# Altium footprint library RelayBord.PcbLib: 28 footprints (part 2 of 2)
Each footprint in its own frame and in the unit in brackets; x right, y up, seen from the top. Pads: shape width x height; smd on the part's side, far side on the other; paste and mask are expansions set on the pad; w line width, h text height; cw(c..) or ccw(c..) is an arc to the next point about the centre after c.
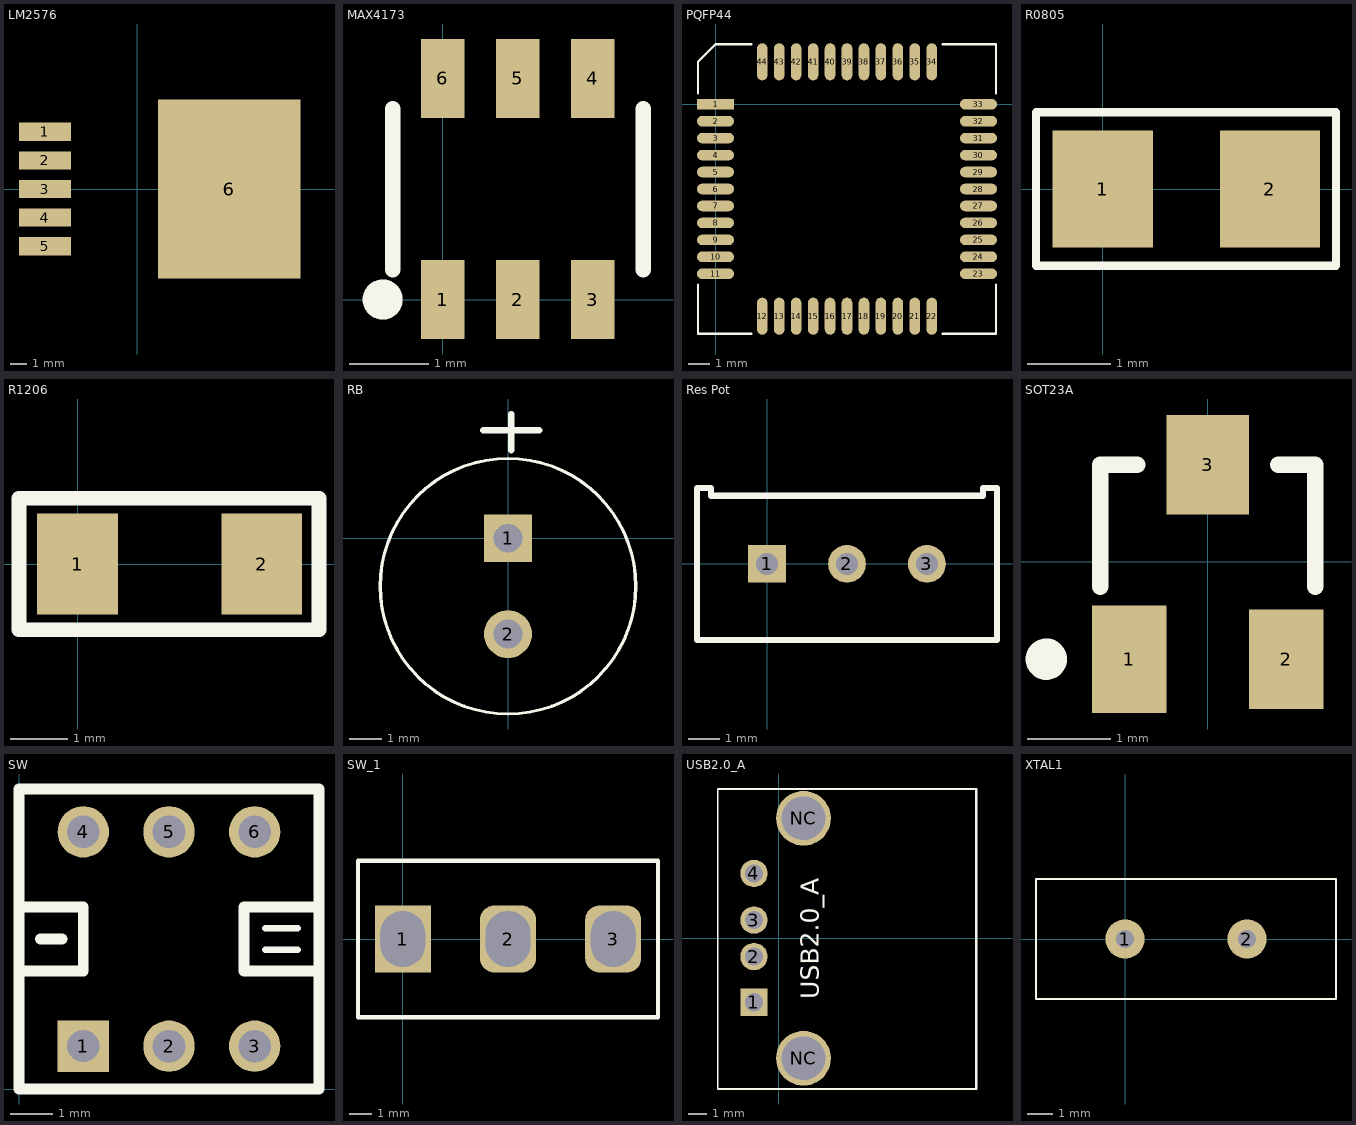
[diagram p1: the footprints below, top view; thin cyan lines are the x and y axes]

## LM2576 [mm]
pads (6):
  rect 3.1x1.1 smd: 1(-5.5,3.404) 2(-5.5,1.702) 3(-5.5,0) 4(-5.5,-1.702) 5(-5.5,-3.404)
  rect 8.5x10.7 smd: 6(5.5,0)

## MAX4173 [mm] "0.5*1,间距0.95"
pads (6):
  rect 0.55x1 smd: 1(0,0) 2(0.95,0) 3(1.9,0) 4(1.9,2.8) 5(0.95,2.8) 6(0,2.8)
Top Overlay:
  circle w0.254: c-0.762,0 r0.127
  lines w0.2: -0.635,0.381 -0.635,2.413 ; 2.54,0.381 2.54,2.413

## PQFP44 [mm]
pads (44):
  rect 1.75x0.5 smd: 1(0,0)
  oval 1.75x0.5 smd: 2(0,-0.8) 3(0,-1.6) 4(0,-2.4) 5(0,-3.2) 6(0,-4) 7(0,-4.8) 8(0,-5.6) 9(0,-6.4) 10(0,-7.2) 11(0,-8) 23(12.4,-8) 24(12.4,-7.2) 25(12.4,-6.4) 26(12.4,-5.6) 27(12.4,-4.8) 28(12.4,-4) 29(12.4,-3.2) 30(12.4,-2.4) 31(12.4,-1.6) 32(12.4,-0.8) 33(12.4,0)
  oval 0.5x1.75 smd: 12(2.2,-10) 13(3,-10) 14(3.8,-10) 15(4.6,-10) 16(5.4,-10) 17(6.2,-10) 18(7,-10) 19(7.8,-10) 20(8.6,-10) 21(9.4,-10) 22(10.2,-10) 34(10.2,2) 35(9.4,2) 36(8.6,2) 37(7.8,2) 38(7,2) 39(6.2,2) 40(5.4,2) 41(4.6,2) 42(3.8,2) 43(3,2) 44(2.2,2)
Top Overlay:
  lines w0.1: -0.825,-8.5 -0.825,-10.825 1.7,-10.825 ; -0.825,0.5 -0.825,2 0,2.825 1.7,2.825 ; 10.7,-10.825 13.225,-10.825 13.225,-8.5 ; 10.7,2.825 13.225,2.825 13.225,0.5

## R0805 [mm]
pads (2):
  rect 1.2x1.4 smd: 1(0,0) 2(2,0)
Top Overlay:
  lines w0.1: -0.8,-0.92 -0.8,0.92 2.79,0.92 2.79,-0.92 -0.8,-0.92

## R1206 [mm]
pads (2):
  rect 1.4x1.75 smd: 1(0,0) 2(3.2,0)
Top Overlay:
  lines w0.254: -1.016,-1.143 -1.016,1.143 4.191,1.143 4.191,-1.143 -1.016,-1.143

## RB [mm] "6mm*8mm"
height 12
pads (2):
  rect 1.5x1.5 hole 0.9: 1(0,0)
  round 1.5 hole 0.9: 2(0,-3)
Top Overlay:
  circle w0.1: c0,-1.501 r4
  lines w0.2: -0.77,3.38 0.98,3.38 ; 0.1,2.75 0.1,3.89

## Res Pot [mm] "Hole size:0.7mm      space:2.54mm"
pads (3):
  rect 1.2x1.2 hole 0.7: 1(0,0)
  round 1.2 hole 0.7: 2(2.54,0) 3(5.08,0)
Top Overlay:
  lines w0.2: -1.781,2.41 -2.225,2.41 -2.225,-2.42 7.305,-2.42 7.305,2.41 6.861,2.41 ; -1.778,2.407 -1.778,2.159 6.858,2.159 6.858,2.407

## SOT23A [mm] "SOT-23; 3 Leads; Body 3.0 x 2.5 mm, inc. leads (LxW max)"
height 1.2
pads (3):
  rect 0.9x1.3 smd: 1(-0.95,-1.175)
  rect 0.9x1.2 smd: 2(0.95,-1.175)
  rect 1x1.2 smd: 3(0,1.175)
Top Overlay:
  circle w0.25: c-1.95,-1.175 r0.125
  lines w0.2: -1.3,-0.3 -1.3,1.175 -0.85,1.175 ; 0.85,1.175 1.3,1.175 1.3,-0.3

## SW [mm] "Hole size 0.75,  间距x:2mm ,y:5mm"
pads (6):
  rect 1.2x1.2 hole 0.75: 1(1.5,1)
  round 1.2 hole 0.762: 2(3.5,1) 3(5.5,1) 4(1.5,6) 5(3.5,6) 6(5.5,6)
Top Overlay:
  lines w0.15: 5.75,3.25 6.5,3.25 ; 5.75,3.75 6.5,3.75
  lines w0.254: 0,2.75 1.5,2.75 1.5,4.25 0,4.25 ; 0.5,3.5 1,3.5 ; 7,2.75 5.25,2.75 5.25,4.25 7,4.25 ; 0,0 0,7 7,7 7,0 0,0

## SW_1 [mm] "ҡͷ"
pads (3):
  rect 2.5x3 hole 2 slot 2.5 at 90 deg: 1(0,0)
  rrect50% 2.5x3 hole 2 slot 2.5 at 90 deg: 2(4.7,0) 3(9.4,0)
Top Overlay:
  lines w0.2: -2,-3.5 11.4,-3.5 11.4,3.5 -2,3.5 -2,-3.5

## USB2.0_A [mm] "USB2.0 ĸ?"
pads (6):
  rect 1.5x1.5 hole 1: 1(-1.355,-3.5)
  round 1.5 hole 1: 2(-1.355,-1) 3(-1.355,1) 4(-1.355,3.55)
  round 3 hole 2.4: NC(1.355,-6.57) NC(1.355,6.57)
Top Overlay:
  lines w0.102: 10.81,-8.25 -3.335,-8.25 -3.335,8.175 10.81,8.175
  lines w0.127: 10.81,-8.25 10.81,8.175
  text "USB2.0_A" at 2.19,-3.33 h1

## XTAL1 [mil]
pads (2):
  round 62 hole 28: 1(0,0) 2(192.13,0)
Top Overlay:
  lines w3.94: -140.16,-94.49 -140.16,94.49 332.28,94.49 332.28,-94.49 -140.16,-94.49